# Altium footprint library PcbLib_lm12to5.PcbLib: 5 footprints
Each footprint in its own frame and in the unit in brackets; x right, y up, seen from the top. Pads: shape width x height; smd on the part's side, far side on the other; paste and mask are expansions set on the pad; w line width, h text height; cw(c..) or ccw(c..) is an arc to the next point about the centre after c.
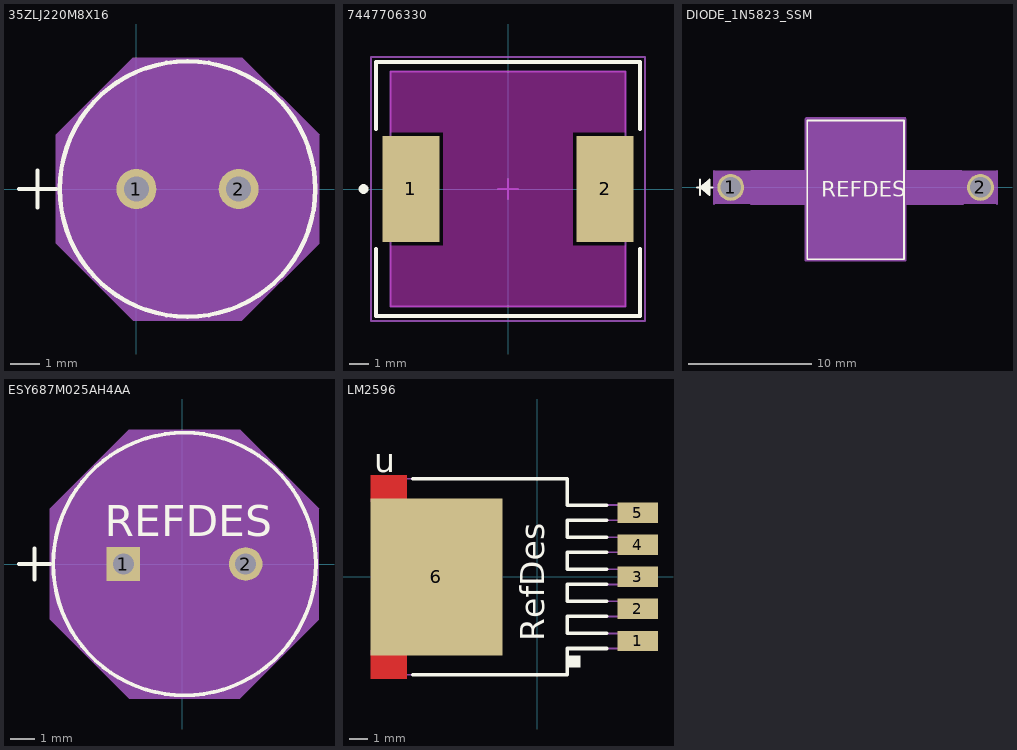
[diagram p0: the footprints below, top view; thin cyan lines are the x and y axes]

## 35ZLJ220M8X16 [mil]
pads (2):
  round 54 hole 34 paste-99999 mask+0: 1(0,0) 2(138,0)
Top Overlay:
  circle w6: c69,0 r172.5
  lines w6: -158.5,0 -108.5,0 ; -133.5,-25 -133.5,25
  text ".Designator" at -80,40 h50
Mechanical 13:
  circle w1: c69,0 r167.5
  lines w1: -158.5,0 -108.5,0 ; -133.5,-25 -133.5,25
  text ".Designator" at -80,40 h50
Mechanical 15:
  region: -108.5,73.09 -4.09,177.5 142.09,177.5 246.5,73.09 246.5,-73.09 142.09,-177.5 -4.09,-177.5 -108.5,-73.09
  lines w1: -108.5,-73.09 -108.5,73.09 -4.09,177.5 142.09,177.5 246.5,73.09 246.5,-73.09 142.09,-177.5 -4.09,-177.5 -108.5,-73.09
3D body "CAP_8X16_RUB.step": height 689.61, standoff -172.01, extent -98.5,-167.38 237.55,167.38

## 7447706330 [mm] "SMT Shielded Power Inductor, 2-leads, body 12x12mm"
height 6
pads (2):
  rect 2.9x5.4 smd: 1(-4.95,0) 2(4.95,0)
Top Layer keep-out:
  region: -6,-6 -6,-2.9 -3.3,-2.9 -3.3,2.9 -6,2.9 -6,6 6,6 6,2.9 3.3,2.9 3.3,-2.9 6,-2.9 6,-6
Top Overlay:
  circle w0.25: c-7.366,0 r0.125
  lines w0.2: -6.731,-3.05 -6.731,-6.477 6.731,-6.477 6.731,-3.05 ; -6.731,3.05 -6.731,6.477 6.731,6.477 6.731,3.05
Top 3D Body:
  circle w0.1: c-5,0 r0.5
  lines w0.1: -6,-6 -6,6 6,6 6,-6 -6,-6
Top Courtyard:
  lines w0.05: -6.985,-6.731 6.985,-6.731 6.985,6.731 -6.985,6.731 -6.985,-6.731
Top Assembly:
  circle w0.1: c-5,0 r0.5
  lines w0.1: -6.985,-6.731 -6.985,6.731 6.985,6.731 6.985,-6.731 -6.985,-6.731
Top Designator:
  text ".Designator" at 0.357,-3.647 h1
Top Component Center:
  lines w0.1: -0.5,0 0.5,0 ; 0,-0.5 0,0.5
3D body "7447706xxx_Rev1.0.stp": height 5.75, standoff 0.02, extent -6.136,-5.989 6.007,6.011

## DIODE_1N5823_SSM [mil]
pads (2):
  round 86 / inner round 60 / far side round 86 hole 66 paste-99999 mask+0: 1(730,0) 2(1530,0)
Top Overlay:
  lines w6: 622,0 672,0 ; 632,-25 632,25 ; 662,-20 632,0 ; 662,-15 632,0 ; 662,-10 632,0 ; 662,-5 632,0 ; 662,5 632,0 ; 662,10 632,0 ; 662,15 632,0 ; 662,20 632,0 ; 632,0 662,-25 662,25 632,0 ; 975,-230 975,215 1285,215 1285,-230 975,-230
  text "REFDES" at 1020,-30 h50
Mechanical 13:
  lines w1: 622,0 672,0 ; 632,-25 632,25 ; 662,-20 632,0 ; 662,-15 632,0 ; 662,-10 632,0 ; 662,-5 632,0 ; 662,5 632,0 ; 662,10 632,0 ; 662,15 632,0 ; 662,20 632,0 ; 850,0 980,0 ; 1280,0 1470,0 ; 632,0 662,-25 662,25 632,0 ; 980,-225 980,225 1280,225 1280,-225 980,-225
  text "RefDes2" at 1020,-30 h50
Mechanical 15:
  region: 970,-53 675,-53 675,53 970,53 970,225 1290,225 1290,53 1580,53 1580,-53 1290,-53 1290,-235 970,-235
  lines w6: 677,-53 677,53 ; 795,-53 970,-53 970,-235 1290,-235 1290,-53 1475,-53 ; 795,53 970,53 970,220 1065,220 1195,220 1290,220 1290,53 1470,53 ; 1583,-53 1583,53
3D body "DIODE_1N5823_SSM_legs_shortened_18_5mm_colored.step": height 450.04, standoff -100, extent 700,-225.1 1559.29,225.1

## ESY687M025AH4AA [mil] "CAP ALUM 680UF 20% 25V RADIAL TH"
pads (2):
  rect 54x54 / inner round 60 / far side rect 54x54 hole 34 paste-99999 mask+0: 1(-95,0)
  round 54 / inner round 60 / far side round 54 hole 34 paste-99999 mask+0: 2(101.85,0)
Top Overlay:
  circle w6: c3.43,0 r211.5
  lines w6: -263.07,0 -213.07,0 ; -238.07,-25 -238.07,25
  text "REFDES" at -125,45 h50
Mechanical 13:
  circle w0: c3.43,0 r206.5
  lines w1: -263.07,0 -213.07,0 ; -238.07,-25 -238.07,25
  text "RefDes2" at -125,45 h50
Mechanical 15:
  region: -213.07,89.15 -85.72,216.5 92.57,216.5 219.93,89.15 219.93,-89.15 92.57,-216.5 -85.72,-216.5 -213.07,-89.15
  lines w1: -213.07,-89.15 -213.07,89.15 -85.72,216.5 92.57,216.5 219.93,89.15 219.93,-89.15 92.57,-216.5 -85.72,-216.5 -213.07,-89.15
3D body "CAP_ESY687-H4_KEM.step": height 856.61, standoff -172.01, extent -203.07,-206.37 210.88,206.37

## LM2596 [mm]
pads (6):
  rect 2.16x1.07 smd paste-0.102 mask+0.051: 1(5.338,-3.4) 2(5.338,-1.7) 3(5.338,0.005) 4(5.338,1.7) 5(5.338,3.4)
  rect 6.99x8.33 smd paste-0.102 mask+0.051: 6(-5.338,0)
Top Layer:
  region: -8.832,5.4 -8.832,4 -6.923,4 -6.923,5.4
  region: -8.832,-3.9 -8.832,-5.4 -6.923,-5.4 -6.923,-3.9
Top Overlay:
  region: 1.6,-4.2 1.6,-4.8 2.3,-4.8 2.3,-4.2
  lines w0.2: -6.6,-5.2 1.6,-5.2 1.6,-3.8 3.683,-3.8 ; -6.6,5.2 1.6,5.2 1.6,3.8 3.683,3.8 ; 3.683,-3 1.6,-3 1.6,-2.1 3.683,-2.1 ; 3.683,-1.3 1.6,-1.3 1.6,-0.4 3.683,-0.4 ; 3.683,0.4 1.6,0.4 1.6,1.3 3.683,1.3 ; 3.683,2.1 1.6,2.1 1.6,3 3.683,3
  text "u" at -8.636,5.537 h1.27
  text "RefDes" at 0.381,-3.429 h1.27
Top Paste:
  region: -8.731,5.298 -8.731,4.102 -7.024,4.102 -7.024,5.298
  region: -8.731,-4.002 -8.731,-5.298 -7.024,-5.298 -7.024,-4.002
Top Solder:
  region: -8.883,5.451 -8.883,3.949 -6.872,3.949 -6.872,5.451
  region: -8.883,-3.849 -8.883,-5.451 -6.872,-5.451 -6.872,-3.849
Mechanical 13:
  lines w0.1: -8.3,-3.3 -8.3,3.6 -7.9,5.2 1.6,5.2 1.6,3.8 6,3.8 6,3 1.6,3 1.6,2.1 6,2.1 6,1.3 1.6,1.3 1.6,0.4 6,0.4 6,-0.4 1.6,-0.4 1.6,-1.3 6,-1.3 6,-2.1 1.6,-2.1 1.6,-3 6,-3 6,-3.8 1.6,-3.8 1.6,-5.2 -7.9,-5.2 -8.3,-3.3
3D body "KTT0005B.stp": height 4.58, standoff -0.14, extent -8.166,-5.08 6.134,5.08